# Altium schematic symbol library EEEFK1J4R7R.SchLib: 1 symbol
Pins are listed as number, name and electrical type; pins without a type are passive.

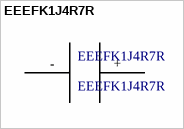
[diagram p0: symbol EEEFK1J4R7R]

## EEEFK1J4R7R
designator EEEFK1J4R7R
footprint EEEFK1J4R7R
pins: +, -